# EAGLE library part MAX6952 (library 1_Robo-Lib)
SPI LED-Matix-Driver<
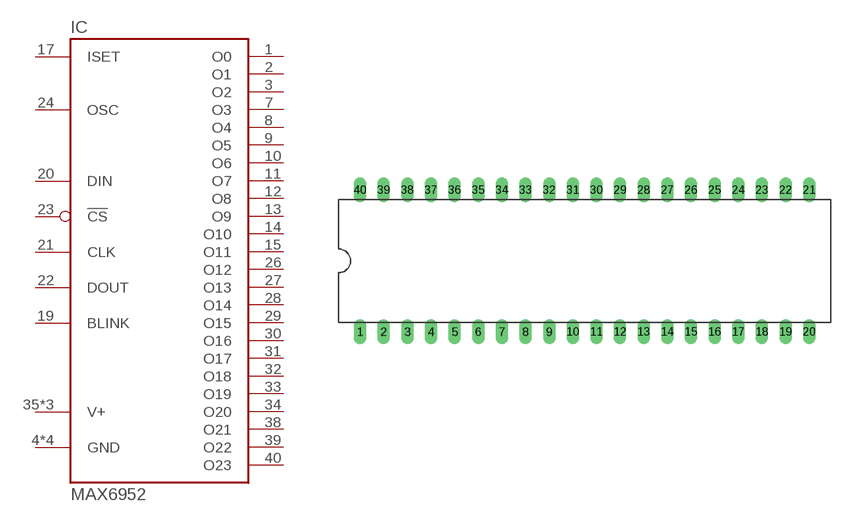
[diagram p5: symbol with the pads of DIL40; footprint DIL40]

Designator prefix IC

## MAX6952EPL+  [DIL40]
1  O0
2  O1
3  O2
4  GND  pwr
5  GND  pwr
6  GND  pwr
7  O3
8  O4
9  O5
10  O6
11  O7
12  O8
13  O9
14  O10
15  O11
17  ISET
18  GND  pwr
19  BLINK
20  DIN
21  CLK
22  DOUT
23  !CS
24  OSC
26  O12
27  O13
28  O14
29  O15
30  O16
31  O17
32  O18
33  O19
34  O20
35  V+  pwr
36  V+  pwr
37  V+  pwr
38  O21
39  O22
40  O23

## Footprint DIL40 (pad centres in mm)
Dual In Line
drill 0.813 long: 1 -24.13,-7.62; 2 -21.59,-7.62; 3 -19.05,-7.62; 4 -16.51,-7.62; 5 -13.97,-7.62; 6 -11.43,-7.62; 7 -8.89,-7.62; 8 -6.35,-7.62; 9 -3.81,-7.62; 10 -1.27,-7.62; 11 1.27,-7.62; 12 3.81,-7.62; 13 6.35,-7.62; 14 8.89,-7.62; 15 11.43,-7.62; 16 13.97,-7.62; 17 16.51,-7.62; 18 19.05,-7.62; 19 21.59,-7.62; 20 24.13,-7.62; 21 24.13,7.62; 22 21.59,7.62; 23 19.05,7.62; 24 16.51,7.62; 25 13.97,7.62; 26 11.43,7.62; 27 8.89,7.62; 28 6.35,7.62; 29 3.81,7.62; 30 1.27,7.62; 31 -1.27,7.62; 32 -3.81,7.62; 33 -6.35,7.62; 34 -8.89,7.62; 35 -11.43,7.62; 36 -13.97,7.62; 37 -16.51,7.62; 38 -19.05,7.62; 39 -21.59,7.62; 40 -24.13,7.62